# Altium schematic symbol library U_CY7C65634-48.SchLib: 1 symbol
Pins are listed as number, name and electrical type; pins without a type are passive.

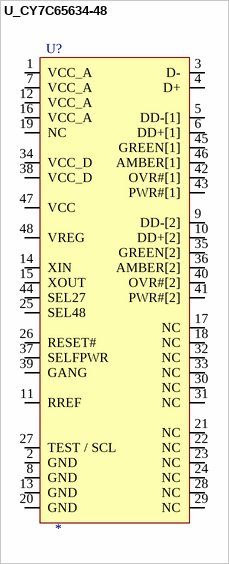
[diagram p0: symbol U_CY7C65634-48]

## U_CY7C65634-48
designator U?
pins: 1 VCC_A, 2 GND, 3 D-, 4 D+, 5 DD-[1], 6 DD+[1], 7 VCC_A, 8 GND, 9 DD-[2], 10 DD+[2], 11 RREF, 12 VCC_A, 13 GND, 14 XIN, 15 XOUT, 16 VCC_A, 17 NC, 18 NC, 19 NC, 20 GND, 21 NC, 22 NC, 23 NC, 24 NC, 25 SEL48, 26 RESET#, 27 TEST / SCL, 28 NC, 29 NC, 30 NC, 31 NC, 32 NC, 33 NC, 34 VCC_D, 35 GREEN[2], 36 AMBER[2], 37 SELFPWR, 38 VCC_D, 39 GANG, 40 OVR#[2], 41 PWR#[2], 42 OVR#[1], 43 PWR#[1], 44 SEL27, 45 GREEN[1], 46 AMBER[1], 47 VCC, 48 VREG